# Altium footprint library AG.Chip.Old.PcbLib: 23 footprints (part 2 of 2)
Each footprint in its own frame and in the unit in brackets; x right, y up, seen from the top. Pads: shape width x height; smd on the part's side, far side on the other; paste and mask are expansions set on the pad; w line width, h text height; cw(c..) or ccw(c..) is an arc to the next point about the centre after c.
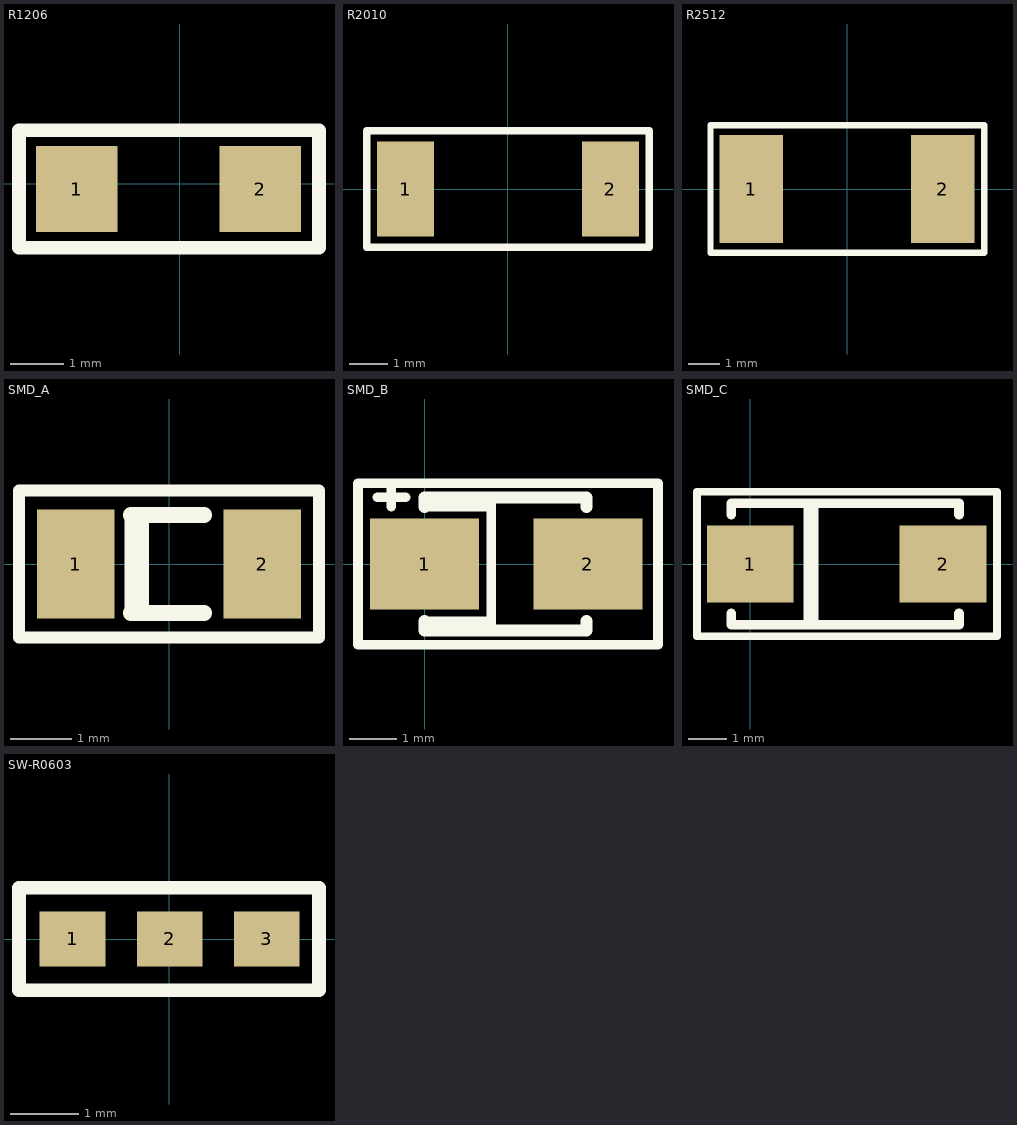
[diagram p1: the footprints below, top view; thin cyan lines are the x and y axes]

## R1206 [mm] "Chip Resistor 1206"
pads (2):
  rect 1.52x1.6 smd: 1(-1.925,-0.1) 2(1.5,-0.1)
Top Overlay:
  lines w0.254: -3,-1.2 2.6,-1.2 2.6,1 -3,1 -3,-1.2
3D body "User Library-CRS1206.STEP": height 0.55, standoff 0, extent -1.75,-0.9 1.35,0.7

## R2010 [mm] "Chip Resistor 2010"
height 0.5
pads (2):
  rect 1.5x2.5 smd: 1(-2.675,0) 2(2.7,0)
Top Overlay:
  lines w0.2: -3.7,-1.525 -3.7,1.525 3.725,1.525 3.725,-1.525 -3.7,-1.525
3D body "User Library-R2010-1.STEP": height 0.55, standoff 0, extent -2.5,-1.26 2.5,1.26

## R2512 [mm] "Chip Resistor 2512"
pads (2):
  rect 2x3.4 smd: 1(-3.025,0) 2(3,0)
Top Overlay:
  lines w0.2: -4.3,-2 4.3,-2 4.3,2 -4.3,2 -4.3,-2
3D body "User Library-Resistors2512.STEP": height 0.61, standoff -0.01, extent -3.202,-1.612 3.202,1.613

## SMD_A [mil] "SMD A Tantalum Electrolytic Capacitor"
pads (2):
  rect 50x70 smd: 1(-60.04,0) 2(59.96,0)
Top Overlay:
  lines w7.87: -24.61,-31.5 -24.61,31.5 ; -16.73,-31.5 -16.73,31.5 ; -96.46,-47.24 -96.46,47.24 96.46,47.24 96.46,-47.24 -96.46,-47.24
  lines w10: -24.61,-31.5 22.64,-31.5 ; -24.61,31.5 22.64,31.5
3D body "User Library-Tantalum Cap Case A.STEP": height 63, standoff -0.03, extent -61.02,-31.5 64.96,31.5

## SMD_B [mil] "SMD B Tantalum Electrolytic Capacitor"
pads (2):
  rect 90x75 smd: 1(0,0) 2(135,0)
Top Overlay:
  lines w7.87: -39.37,55.12 -15.75,55.12 ; -27.56,47.24 -27.56,66.93 ; 0,-47.24 55.12,-47.24 ; 0,47.24 51.18,47.24 ; 55.12,-55.12 55.12,51.18 ; -55.12,-66.93 192.91,-66.93 192.91,66.93 -55.12,66.93 -55.12,-66.93 ; 47.24,-55.12 47.24,-55.12
  lines w10: 133.86,-47.24 133.86,-55.12 0,-55.12 0,-47.24 ; 133.86,47.24 133.86,55.12 0,55.12 0,47.24 ; 0,-47.24 0,-47.24 ; 0,47.24 0,47.24
3D body "User Library-SMD B.STEP": height 76.82, standoff 1.57, extent -3.21,-56.1 141,54.13

## SMD_C [mil] "SMD C Tantalum Electrolytic Capacitor"
pads (2):
  rect 90x80 smd: 1(0,0) 2(200,0)
Top Overlay:
  lines w7.87: 59.06,-59.06 59.06,62.99 ; 66.93,-62.99 66.93,62.99 ; -55.12,-74.8 -55.12,74.8 255.91,74.8 255.91,-74.8 -55.12,-74.8
  lines w10: -19.68,-51.18 -19.68,-62.99 216.54,-62.99 216.54,-51.18 ; -19.68,51.18 -19.68,62.99 216.54,62.99 216.54,51.18
3D body "User Library-C_case.STEP": height 106.3, standoff 0, extent -21.65,-66.93 218.51,64.96

## SW-R0603 [mm] "Choice (Jumper) of Chip Resistor 0603"
pads (3):
  rect 0.965x0.8 smd: 1(-1.415,0) 2(0.01,0) 3(1.435,0)
Top Overlay:
  lines w0.2: -2.2,-0.75 -2.2,0.75 2.2,0.75 2.2,-0.75 -2.2,-0.75
3D body "User Library-Chip Resistor_0603 (1608).STEP": height 0.47, standoff 0, extent -1.475,-0.4 0.125,0.402